# Altium footprint library PcbLib1.PcbLib: 5 footprints
Each footprint in its own frame and in the unit in brackets; x right, y up, seen from the top. Pads: shape width x height; smd on the part's side, far side on the other; paste and mask are expansions set on the pad; w line width, h text height; cw(c..) or ccw(c..) is an arc to the next point about the centre after c.
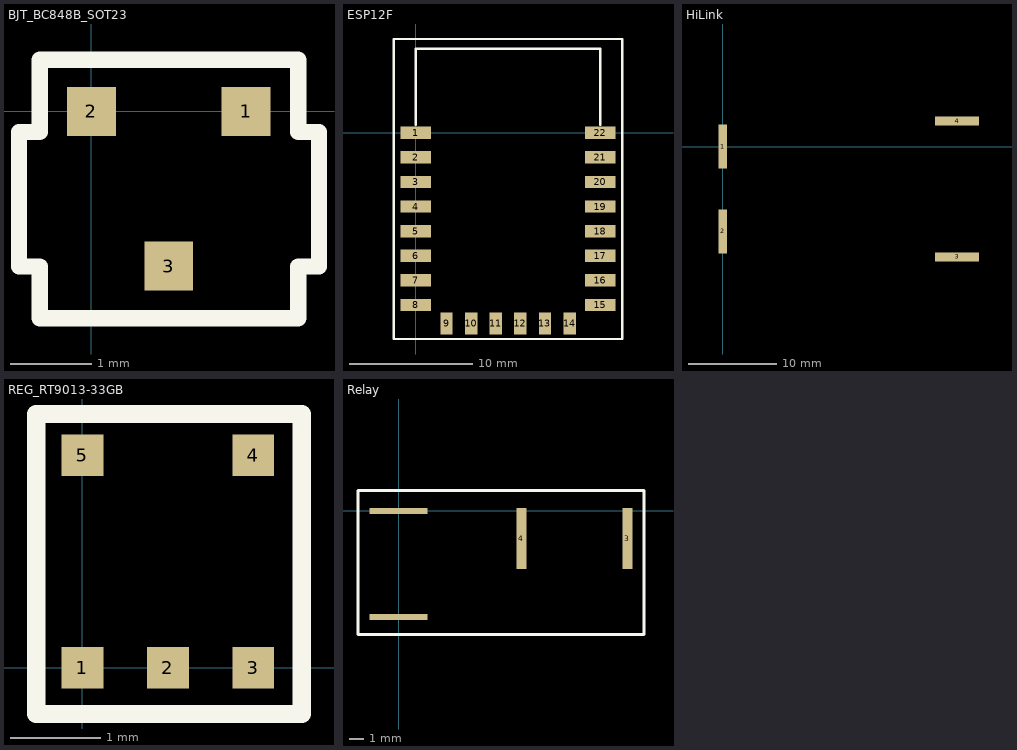
[diagram p0: the footprints below, top view; thin cyan lines are the x and y axes]

## BJT_BC848B_SOT23 [mm]
pads (3):
  rect 0.6x0.6 smd: 1(1.9,0) 2(0,0) 3(0.95,-1.9)
Top Overlay:
  lines w0.2: -0.889,-1.905 -0.889,-0.254 -0.635,-0.254 -0.635,0.635 2.54,0.635 2.54,-0.254 2.794,-0.254 2.794,-1.905 2.54,-1.905 2.54,-2.54 -0.635,-2.54 -0.635,-1.905 -0.889,-1.905

## ESP12F [mm]
pads (22):
  rect 2.5x1 smd: 1(0,0) 2(0,-2) 3(0,-4) 4(0,-6) 5(0,-8) 6(0,-10) 7(0,-12) 8(0,-14) 15(15,-14) 16(15,-12) 17(15,-10) 18(15,-8) 19(15,-6) 20(15,-4) 21(15,-2) 22(15,0)
  rect 1x1.8 smd: 9(2.5,-15.5) 10(4.5,-15.5) 11(6.5,-15.5) 12(8.5,-15.5) 13(10.5,-15.5) 14(12.5,-15.494)
Top Overlay:
  lines w0.2: 0,0.635 0,6.835 15,6.835 15,0.635 ; -1.778,-16.764 -1.778,7.62 16.764,7.62 16.764,-16.764 -1.778,-16.764

## HiLink [mm]
pads (4):
  rect 1x5 smd: 1(0,0) 2(0,-9.6)
  rect 5x1 smd: 3(26.6,-12.5) 4(26.6,2.9)
Bottom Overlay:
  lines w0.254: -2.921,-14.732 31.115,-14.732 31.115,5.08 -2.921,5.08 -2.921,-14.732

## REG_RT9013-33GB [mm]
pads (5):
  rect 0.46x0.46 smd: 1(0,0) 2(0.94,0) 3(1.88,0) 4(1.88,2.34) 5(0,2.34)
Top Overlay:
  lines w0.2: -0.508,-0.508 -0.508,2.794 2.413,2.794 2.413,-0.508 -0.508,-0.508

## Relay [mm]
pads (4):
  rect 4x0.4 smd: 1(0,0) 2(0,-7.3)
  rect 0.7x4.2 smd: 3(15.75,-1.9) 4(8.45,-1.9)
Top Overlay:
  lines w0.2: -2.794,-8.509 16.891,-8.509 16.891,1.397 -2.794,1.397 -2.794,-8.509